# Altium footprint library footprints.PcbLib: 4 footprints
Each footprint in its own frame and in the unit in brackets; x right, y up, seen from the top. Pads: shape width x height; smd on the part's side, far side on the other; paste and mask are expansions set on the pad; w line width, h text height; cw(c..) or ccw(c..) is an arc to the next point about the centre after c.
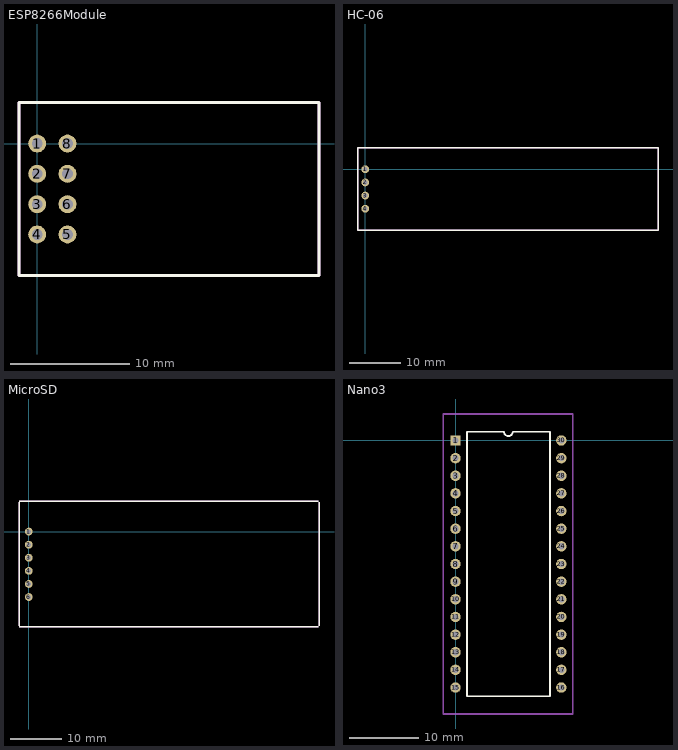
[diagram p0: the footprints below, top view; thin cyan lines are the x and y axes]

## ESP8266Module [mm]
pads (8):
  round 1.5 hole 0.9: 1(0,0) 2(0,-2.54) 3(0,-5.08) 4(0,-7.62) 5(2.54,-7.62) 6(2.54,-5.08) 7(2.54,-2.54) 8(2.54,0)
Top Overlay:
  lines w0.254: -1.524,-11.049 -1.524,3.429 23.622,3.429 23.622,-11.049 -1.524,-11.049
Mechanical 1:
  lines w0.254: -1.524,-11.049 -1.524,3.429 23.622,3.429 23.622,-11.049 -1.524,-11.049

## HC-06 [mm]
pads (4):
  round 1.5 hole 0.9: 1(0,0) 2(0,-2.54) 3(0,-5.08) 4(0,-7.62)
Top Overlay:
  lines w0.254: -1.397,-11.811 56.642,-11.811 56.642,4.191 -1.397,4.191 -1.397,-11.811
Mechanical 1:
  lines w0.254: -1.397,-11.811 -1.397,4.191 56.642,4.191 56.642,-11.811 -1.397,-11.811

## MicroSD [mm]
pads (6):
  round 1.5 hole 0.9: 1(0,0) 2(0,-2.54) 3(0,-5.08) 4(0,-7.62) 5(0,-10.16) 6(0,-12.7)
Top Overlay:
  lines w0.254: -1.905,-18.415 56.134,-18.415 ; -1.905,-18.288 -1.905,5.715 ; -1.905,5.842 56.134,5.842 ; 56.261,-18.288 56.261,5.715
Mechanical 1:
  lines w0.254: -1.905,-18.415 56.134,-18.415 ; -1.905,-18.288 -1.905,5.715 ; -1.905,5.842 56.134,5.842 ; 56.261,-18.288 56.261,5.715

## Nano3 [mm]
pads (30):
  rect 1.5x1.5 hole 0.9: 1(0,0)
  round 1.5 hole 0.9: 2(0,-2.54) 3(0,-5.08) 4(0,-7.62) 5(0,-10.16) 6(0,-12.7) 7(0,-15.24) 8(0,-17.78) 9(0,-20.32) 10(0,-22.86) 11(0,-25.4) 12(0,-27.94) 13(0,-30.48) 14(0,-33.02) 15(0,-35.56) 16(15.24,-35.56) 17(15.24,-33.02) 18(15.24,-30.48) 19(15.24,-27.94) 20(15.24,-25.4) 21(15.24,-22.86) 22(15.24,-20.32) 23(15.24,-17.78) 24(15.24,-15.24) 25(15.24,-12.7) 26(15.24,-10.16) 27(15.24,-7.62) 28(15.24,-5.08) 29(15.24,-2.54) 30(15.24,0)
Top Overlay:
  lines w0.254: 1.639,-36.83 1.639,1.27 6.985,1.27 ccw(c7.62,1.27) 8.255,1.27 13.601,1.27 13.601,-36.83 1.639,-36.83
Mechanical 1:
  lines w0.254: -1.778,-39.37 16.891,-39.37 16.891,3.81 -1.778,3.81 -1.778,-39.37